# EAGLE library part DPX202700DT-4162A1 (library SparkFun-RF)
TDK - DPX202700DT-4162A1 Multilayer Diplexer For 698-960MHz / 1710-2700MHz 2.0x1.25mm [EIA 0805] Datasheet <https://product.tdk.com/info/en/documents/data_sheet/rf_dpx_dpx202700dt-4162a1_en.pdf> SparkFun Products LoRa Thing Plus - expLoRaBLE (WRL-17506) <https://www.sparkfun.com/products/17506> *Note, this uses the "standard" footprint (not the "-L" or "-M")
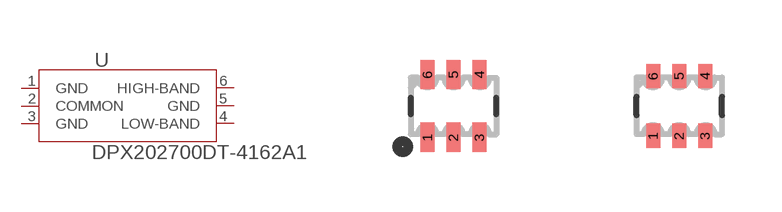
[diagram p42: symbol with the pads of RF_4060A1_TDK; footprints RF_4060A1_TDK, RF_4060A1_TDK-L]

Designator prefix U

## DPX202700DT-4162A1 (BUILT_BY: EMA_Matt; COPYRIGHT: Copyright (C) 2018 Accelerated Designs. All rights reserved; MANUFACTURER_PART_NUMBER: DPX202700DT-4162A1; PROD_ID: IC-15465; SOURCELIBRARY: TDK_2019-10-09; VENDOR: TDK)  [RF_4060A1_TDK]
1  GND  pas
2  COMMON  pas
3  GND  pas
4  LOW-BAND  pas
5  GND  pas
6  HIGH-BAND  pas

## DPX202700DT-4162A1RF_4060A1_TDK-L (BUILT_BY: EMA_Matt; COPYRIGHT: Copyright (C) 2018 Accelerated Designs. All rights reserved; MANUFACTURER_PART_NUMBER: DPX202700DT-4162A1; SOURCELIBRARY: TDK_2019-10-09; VENDOR: TDK)  [RF_4060A1_TDK-L]
Pads as for RF_4060A1_TDK

## DPX202700DT-4162A1RF_4060A1_TDK-M (BUILT_BY: EMA_Matt; COPYRIGHT: Copyright (C) 2018 Accelerated Designs. All rights reserved; MANUFACTURER_PART_NUMBER: DPX202700DT-4162A1; SOURCELIBRARY: TDK_2019-10-09; VENDOR: TDK)  [RF_4060A1_TDK-M]
Pads as for RF_4060A1_TDK

## Footprint RF_4060A1_TDK (pad centres in mm)
smd 0.356 x 0.737: 1 -0.65,-0.787; 2 0,-0.787; 3 0.65,-0.787; 4 0.65,0.787; 5 0,0.787; 6 -0.65,0.787

## Footprint RF_4060A1_TDK-L (pad centres in mm)
smd 0.356 x 0.61: 1 -0.65,-0.749; 2 0,-0.749; 3 0.65,-0.749; 4 0.65,0.749; 5 0,0.749; 6 -0.65,0.749

## Footprint RF_4060A1_TDK-M (pad centres in mm)
smd 0.406 x 0.864: 1 -0.65,-0.826; 2 0,-0.826; 3 0.65,-0.826; 4 0.65,0.826; 5 0,0.826; 6 -0.65,0.826